# Altium footprint library DIN41612_48_3row_straight_female.PcbLib: 1 footprints
Each footprint in its own frame and in the unit in brackets; x right, y up, seen from the top. Pads: shape width x height; smd on the part's side, far side on the other; paste and mask are expansions set on the pad; w line width, h text height; cw(c..) or ccw(c..) is an arc to the next point about the centre after c.
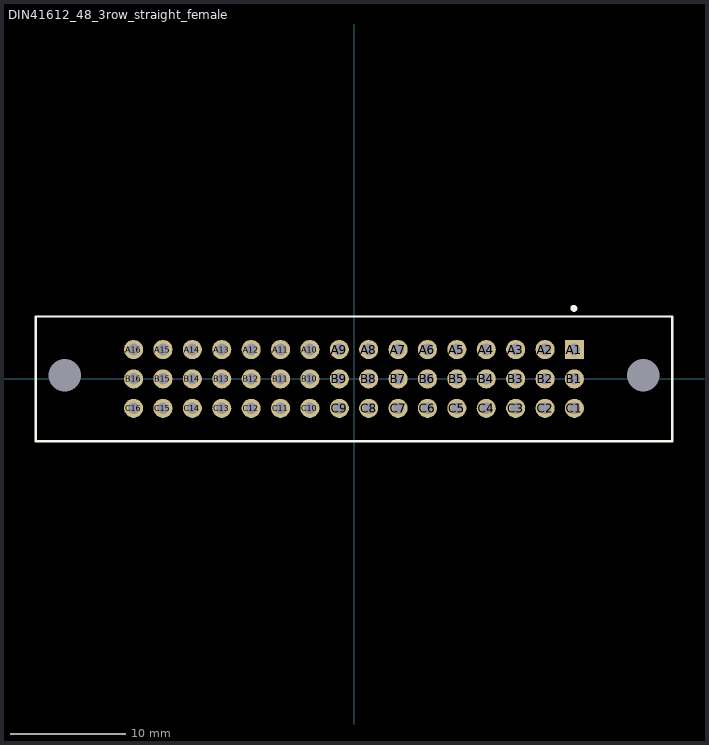
[diagram p0: the footprint, top view; thin cyan lines are the x and y axes]

## DIN41612_48_3row_straight_female [mm]
height 11.3
pads (50):
  rect 1.65x1.65 hole 1: A1(19.05,2.54)
  round 1.65 hole 1: A2(16.51,2.54) A3(13.97,2.54) A4(11.43,2.54) A5(8.89,2.54) A6(6.35,2.54) A7(3.81,2.54) A8(1.27,2.54) A9(-1.27,2.54) A10(-3.81,2.54) A11(-6.35,2.54) A12(-8.89,2.54) A13(-11.43,2.54) A14(-13.97,2.54) A15(-16.51,2.54) A16(-19.05,2.54) B1(19.05,0) B2(16.51,0) B3(13.97,0) B4(11.43,0) B5(8.89,0) B6(6.35,0) B7(3.81,0) B8(1.27,0) B9(-1.27,0) B10(-3.81,0) B11(-6.35,0) B12(-8.89,0) B13(-11.43,0) B14(-13.97,0) B15(-16.51,0) B16(-19.05,0) C1(19.05,-2.54) C2(16.51,-2.54) C3(13.97,-2.54) C4(11.43,-2.54) C5(8.89,-2.54) C6(6.35,-2.54) C7(3.81,-2.54) C8(1.27,-2.54) C9(-1.27,-2.54) C10(-3.81,-2.54) C11(-6.35,-2.54) C12(-8.89,-2.54) C13(-11.43,-2.54) C14(-13.97,-2.54) C15(-16.51,-2.54) C16(-19.05,-2.54)
  round 2.5 hole 2.8 unplated: ""(-25,0.3) ""(25,0.3)
Top Overlay:
  circle w0.3: c19,6.1 r0.15
  lines w0.2: -27.5,-5.4 -27.5,5.4 27.5,5.4 27.5,-5.4 -27.5,-5.4
Bottom Overlay:
  circle w0.3: c19,4.6 r0.15
3D body "DS1120-48F-V13_fixed.stp": height 11.3, standoff -4.5, extent -27.446,-5.301 27.454,5.291